# Altium footprint library 接插件.PCBLIB: 113 footprints (part 3 of 8)
Each footprint in its own frame and in the unit in brackets; x right, y up, seen from the top. Pads: shape width x height; smd on the part's side, far side on the other; paste and mask are expansions set on the pad; w line width, h text height; cw(c..) or ccw(c..) is an arc to the next point about the centre after c.
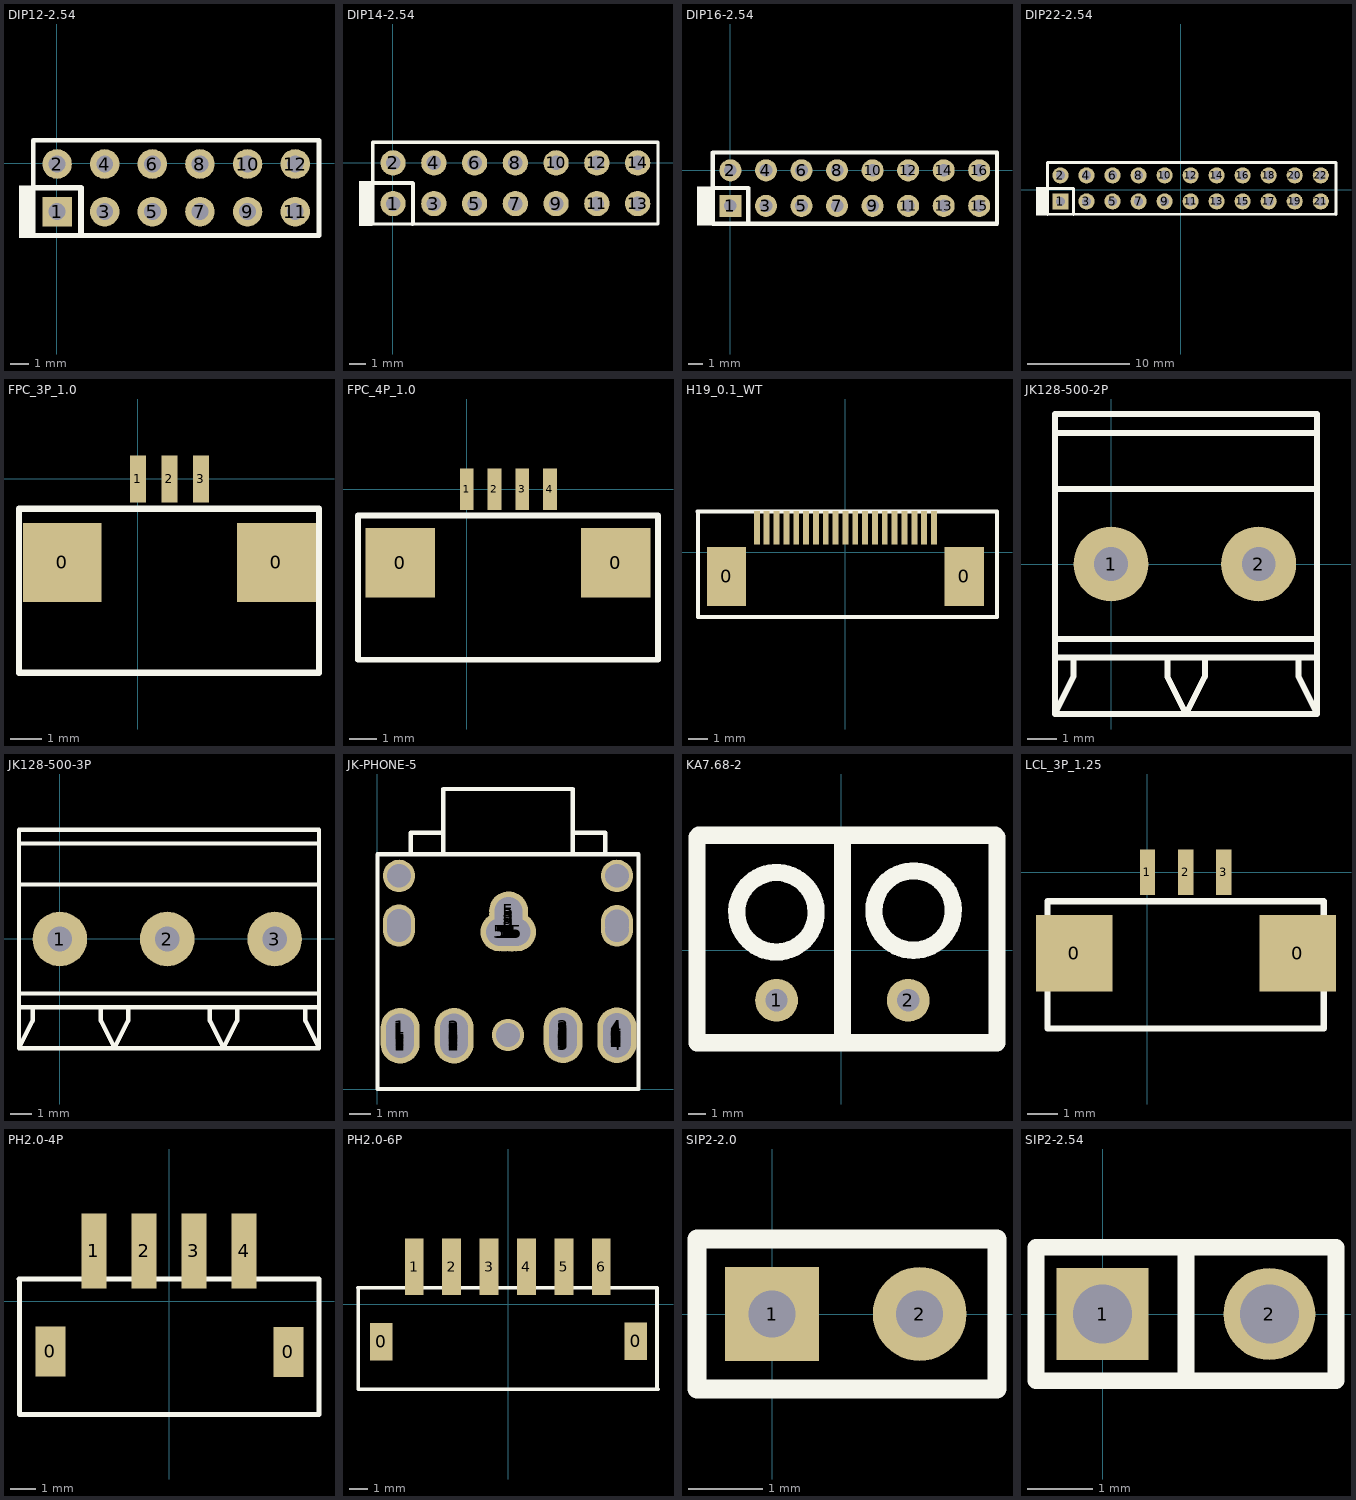
[diagram p2: the footprints below, top view; thin cyan lines are the x and y axes]

## DIP12-2.54 [mil]
pads (12):
  rect 62x62 hole 35.43: 1(1,-102)
  round 62 hole 35.43: 2(1,-2) 3(101,-102) 4(101,-2) 5(201,-102) 6(201,-2) 7(301,-102) 8(301,-2) 9(401,-102) 10(401,-2) 11(501,-102) 12(501,-2)
TopOverlay:
  rectangle: -79,-157 -49,-47
  lines w10: -49,-152 -49,48 551,48 551,-152 -49,-152
  lines w12: -49,-52 51,-52 51,-151

## DIP14-2.54 [mil]
pads (14):
  round 62 hole 35.43: 1(1,-99.67) 2(1,0.33) 3(101,-99.67) 4(101,0.33) 5(201,-99.67) 6(201,0.33) 7(301,-99.67) 8(301,0.33) 9(401,-99.67) 10(401,0.33) 11(501,-99.67) 12(501,0.33) 13(601,-99.67) 14(601,0.33)
TopOverlay:
  rectangle: -82,-155 -49,-44
  lines w8: -49,-149.67 651,-149.67 651,51 -49,51 -49,-149.67
  lines w10: -49,-49 49,-49 50,-50 50,-148.67 49,-149.67

## DIP16-2.54 [mil]
pads (16):
  rect 62x62 hole 35.43: 1(0,-100)
  round 62 hole 35.43: 2(0,0) 3(100,-100) 4(100,0) 5(200,-100) 6(200,0) 7(300,-100) 8(300,0) 9(400,-100) 10(400,0) 11(500,-100) 12(500,0) 13(600,-100) 14(600,0) 15(700,-100) 16(700,0)
TopOverlay:
  rectangle: -94,-155 -50,-45
  lines w12: -50,-50 50,-50 50,-150 ; -50,-150 -50,50 750,50 750,-150 -50,-150

## DIP22-2.54 [mil]
pads (22):
  rect 62x62 hole 35.43: 1(-463.03,-45.24)
  round 62 hole 35.43: 2(-463.03,54.76) 3(-363.03,-45.24) 4(-363.03,54.76) 5(-263.03,-45.24) 6(-263.03,54.76) 7(-163.03,-45.24) 8(-163.03,54.76) 9(-63.03,-45.24) 10(-63.03,54.76) 11(36.97,-45.24) 12(36.97,54.76) 13(136.97,-45.24) 14(136.97,54.76) 15(236.97,-45.24) 16(236.97,54.76) 17(336.97,-45.24) 18(336.97,54.76) 19(436.97,-45.24) 20(436.97,54.76) 21(536.97,-45.24) 22(536.97,54.76)
TopOverlay:
  rectangle: -557.03,-100.24 -513.03,9.76
  lines w12: -513.03,4.76 -413.03,4.76 -413.03,-95.24 ; 589.57,-94.49 -513.03,-95.24 -513.03,104.76 595.47,104.33 595.47,-95.67

## FPC_3P_1.0 [mm]
height 2.54
pads (5):
  rect 2.5x2.5 smd: 0(-2.4,-2.65) 0(4.4,-2.65)
  rect 0.5x1.5 smd: 1(0,0) 2(1,0) 3(2,0)
TopOverlay:
  lines w0.2: -3.775,-6.15 5.75,-6.15 5.75,-0.95 -3.775,-0.95 -3.775,-6.15

## FPC_4P_1.0 [mm]
height 2.54
pads (6):
  rect 2.5x2.5 smd: 0(-2.4,-2.65) 0(5.375,-2.65)
  rect 0.5x1.5 smd: 1(0,0) 2(1,0) 3(2,0) 4(3,0)
TopOverlay:
  lines w0.2: -3.925,-6.15 -3.925,-0.95 6.9,-0.95 6.9,-6.15 -3.925,-6.15

## H19_0.1_WT [mm]
pads (21):
  rect 2x3 smd: 0(-6.04,-1.237) 0(6.04,-1.237)
  rect 0.3x1.7 smd: 1(-4.5,1.238) 2(-4,1.238) 3(-3.5,1.238) 4(-3,1.238) 5(-2.5,1.238) 6(-2,1.238) 7(-1.5,1.238) 8(-1,1.238) 9(-0.5,1.238) 10(0,1.238) 11(0.5,1.238) 12(1,1.238) 13(1.5,1.238) 14(2,1.238) 15(2.5,1.238) 16(3,1.238) 17(3.5,1.238) 18(4,1.238) 19(4.5,1.238)
TopOverlay:
  lines w0.2: -7.525,2.05 7.675,2.05 ; -7.5,2.075 -7.5,-3.3 7.7,-3.3 7.7,2.05

## JK128-500-2P [mil]
pads (2):
  round 100 hole 45: 1(0,0) 2(196.85,0)
TopOverlay:
  lines w8: -75,-125 225,-125 275,-125 ; -75,100 225,100 275,100 ; -75,175 225,175 275,175 ; -50,-125 -50,-150 -75,-200 ; 75,-125 75,-150 100,-200 125,-150 125,-125 ; 250,-125 250,-150 275,-200 ; 275,-100 225,-100 -75,-100 ; -75,-200 -75,-100 ; -75,-200 225,-200 275,-200 ; -75,-100 -75,200 225,200 275,200 275,150 275,-150 275,-200

## JK128-500-3P [mil]
pads (3):
  round 100 hole 45: 1(0,-0.02) 2(196.85,-0.02) 3(393.7,-0.02)
TopOverlay:
  lines w8: -75,-125.02 225,-125.02 275,-125.02 275,-150.02 300,-200.02 325,-150.02 325,-125.02 ; -75,99.98 225,99.98 275,99.98 ; -75,174.98 225,174.98 275,174.98 ; -50,-125.02 -50,-150.02 -75,-200.02 ; 75,-125.02 75,-150.02 100,-200.02 125,-150.02 125,-125.02 425,-125.02 475,-125.02 ; 125,-200.02 425,-200.02 475,-200.02 ; 125,-100.02 425,-100.02 475,-100.02 ; 125,99.98 425,99.98 475,99.98 ; 125,174.98 425,174.98 475,174.98 ; 125,199.98 425,199.98 475,199.98 475,149.98 475,-150.02 475,-200.02 ; 275,-200.02 225,-200.02 -75,-200.02 ; 275,-100.02 225,-100.02 -75,-100.02 ; 275,199.98 225,199.98 -75,199.98 -75,-100.02 ; 450,-125.02 450,-150.02 475,-200.02 ; -75,-200.02 -75,-100.02

## JK-PHONE-5 [mm]
pads (130):
  round 1.8 hole 1.3: 1(1.05,2.075) 1(1.05,2.15) 1(1.05,2.2) 1(1.05,2.25) 1(1.05,2.275) 1(1.05,2.3) 1(1.05,2.325) 1(1.05,2.375) 1(1.05,2.425) 1(1.05,2.475) 1(1.05,2.5) 1(1.05,2.525) 1(1.05,2.575) 1(1.05,2.575) 1(1.05,2.625) 1(1.05,2.625) 1(1.05,2.625) 1(1.05,2.675) 1(1.05,2.675) 1(1.05,2.725) 1(1.05,2.725) 1(1.05,2.775) 1(1.05,2.85) 2(3.55,2.075) 2(3.55,2.15) 2(3.55,2.2) 2(3.55,2.25) 2(3.55,2.275) 2(3.55,2.3) 2(3.55,2.325) 2(3.55,2.375) 2(3.55,2.425) 2(3.55,2.475) 2(3.55,2.5) 2(3.55,2.525) 2(3.55,2.575) 2(3.55,2.575) 2(3.55,2.625) 2(3.55,2.625) 2(3.55,2.625) 2(3.55,2.675) 2(3.55,2.675) 2(3.55,2.725) 2(3.55,2.725) 2(3.55,2.775) 2(3.55,2.85) 3(8.6,2.1) 3(8.6,2.4) 3(8.6,2.5) 3(8.6,2.875) 3(8.6,2.175) 3(8.6,2.225) 3(8.6,2.275) 3(8.6,2.3) 3(8.6,2.325) 3(8.6,2.35) 3(8.6,2.45) 3(8.6,2.5) 3(8.6,2.55) 3(8.6,2.6) 3(8.6,2.6) 3(8.6,2.65) 3(8.6,2.65) 3(8.6,2.65) 3(8.6,2.7) 3(8.6,2.7) 3(8.6,2.75) 3(8.6,2.75) 3(8.6,2.8) 4(11.1,2.175) 4(11.1,2.225) 4(11.1,2.3) 4(11.1,2.325) 4(11.1,2.35) 4(11.1,2.4) 4(11.1,2.45) 4(11.1,2.5) 4(11.1,2.55) 4(11.1,2.6) 4(11.1,2.65) 4(11.1,2.65) 4(11.1,2.65) 4(11.1,2.7) 4(11.1,2.7) 4(11.1,2.75) 4(11.1,2.75) 4(11.1,2.8) 4(11.1,2.1) 4(11.1,2.275) 4(11.1,2.5) 4(11.1,2.6) 4(11.1,2.875) 5(5.675,7.275) 5(5.75,7.275) 5(5.8,7.275) 5(5.8,7.275) 5(5.85,7.275) 5(5.85,7.275) 5(5.9,7.275) 5(5.9,7.275) 5(5.9,7.275) 5(5.95,7.275) 5(5.95,7.275) 5(6,7.275) 5(6.05,7.275) 5(6.075,7.5) 5(6.075,7.7) 5(6.075,7.825) 5(6.075,7.925) 5(6.075,8.1) 5(6.075,8.25) 5(6.1,7.275) 5(6.1,7.275) 5(6.15,7.275) 5(6.2,7.275) 5(6.225,7.275) 5(6.25,7.275) 5(6.275,7.275) 5(6.325,7.275) 5(6.375,7.275) 5(6.45,7.275)
  round 1.5 hole 1.1: ""(1,7.35) ""(1,7.575) ""(1,7.8) ""(1,9.875) ""(6.05,2.5) ""(11.1,7.35) ""(11.1,7.6) ""(11.1,7.775) ""(11.1,9.875)
TopOverlay:
  lines w0.2: 1.55,10.9 1.55,11.85 ; 1.55,11.875 3.025,11.875 ; 3.05,10.875 9.05,10.875 12.05,10.875 ; 3.05,10.9 3.05,13.9 9,13.9 ; 3.075,10.875 0,10.875 0,0 12.05,0 ; 9.05,10.9 9.05,13.9 ; 9.05,11.875 10.55,11.875 10.55,10.875 ; 12.1,0 12.1,10.875

## KA7.68-2 [mm]
pads (2):
  round 2.5 hole 1.3: 1(-3.785,-2.925) 2(3.895,-2.925)
TopOverlay:
  lines w1: -8.425,6.6 -8.425,-5.4 8.975,-5.4 ; -8.325,6.7 8.975,6.7 ; -5.9,1.25 cw(c-3.791,2.209) -5.897,1.243 ; 0.055,-5.4 0.055,6.6 ; 2.1,1.35 cw(c4.209,2.309) 2.103,1.343 ; 9.075,-5.4 9.075,6.6

## LCL_3P_1.25 [mm]
height 2.54
pads (5):
  rect 2.5x2.5 smd: 0(-2.4,-2.65) 0(4.925,-2.65)
  rect 0.5x1.5 smd: 1(0,0) 2(1.25,0) 3(2.5,0)
TopOverlay:
  lines w0.2: -3.275,-5.125 -3.275,-0.95 5.775,-0.95 5.775,-5.125 -3.275,-5.125

## PH2.0-4P [mm]
height 2.54
pads (6):
  rect 1.2x2 smd: 0(-4.763,-1.994) 0(4.763,-2.019)
  rect 1x3 smd: 1(-3.013,2.019) 2(-1.012,2.019) 3(0.987,2.019) 4(2.987,2.019)
TopOverlay:
  lines w0.2: -6.013,0.894 5.987,0.894 5.987,-4.506 ; -5.997,0.894 -5.997,-4.523 5.987,-4.523

## PH2.0-6P [mm]
height 2.54
pads (8):
  rect 1.2x2 smd: 0(-6.787,-2.006) 0(6.787,-1.969)
  rect 1x3 smd: 1(-5.038,2.006) 2(-3.037,2.006) 3(-1.038,2.006) 4(0.962,2.006) 5(2.962,2.006) 6(4.962,2.006)
TopOverlay:
  lines w0.2: -8.037,0.881 7.938,0.881 ; -8.022,0.881 -8.022,-4.536 7.987,-4.536 ; 7.938,-4.544 7.938,0.873

## SIP2-2.0 [mm]
pads (2):
  rect 1.27x1.27 hole 0.635: 1(0,0)
  round 1.27 hole 0.635: 2(2,0)
TopOverlay:
  lines w0.254: -1.016,-1.016 -1.016,1.016 3.048,1.016 3.048,-1.016 -1.016,-1.016

## SIP2-2.54 [mm]
pads (2):
  rect 1.4x1.4 hole 0.9: 1(0,0)
  round 1.4 hole 0.9: 2(2.54,0)
TopOverlay:
  lines w0.254: 1.27,-1.016 1.27,1.016 ; -1.016,-1.016 3.556,-1.016 3.556,1.016 -1.016,1.016 -1.016,-1.016